# Altium footprint library MPU-6050_Main_PCB_Lib.PcbLib: 5 footprints
Each footprint in its own frame and in the unit in brackets; x right, y up, seen from the top. Pads: shape width x height; smd on the part's side, far side on the other; paste and mask are expansions set on the pad; w line width, h text height; cw(c..) or ccw(c..) is an arc to the next point about the centre after c.
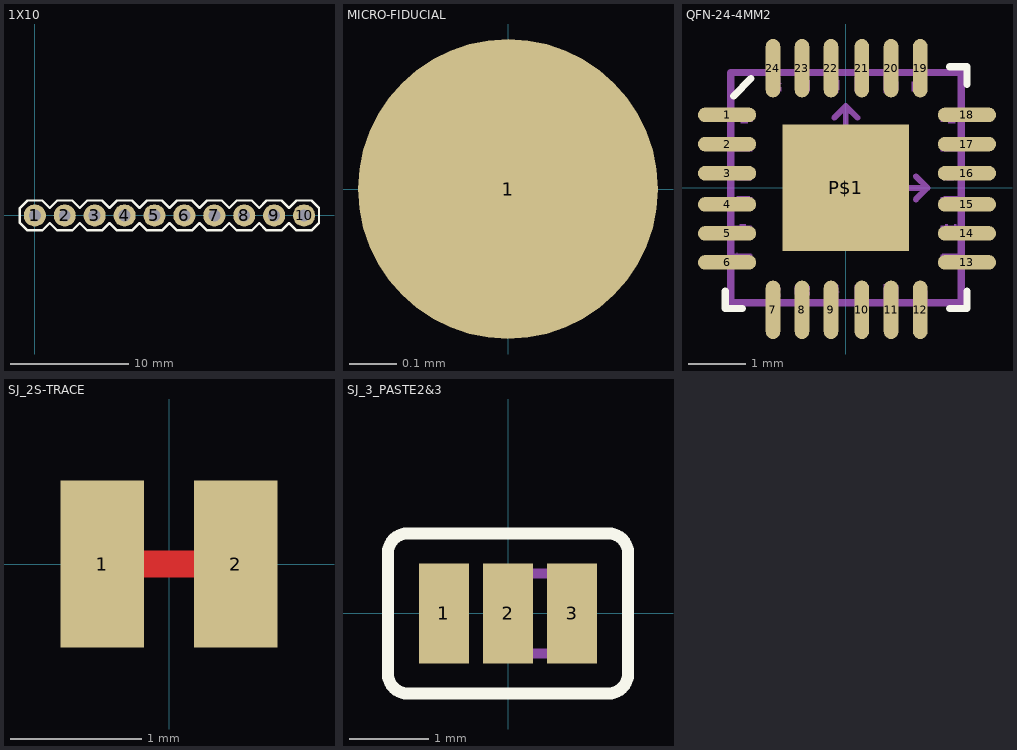
[diagram p0: the footprints below, top view; thin cyan lines are the x and y axes]

## 1X10 [mil] "1X10"
pads (10):
  round 74 hole 40: 1(0,0) 2(100,0) 3(200,0) 4(300,0) 5(400,0) 6(500,0) 7(600,0) 8(700,0) 9(800,0) 10(900,0)
Top Overlay:
  lines w8: -50,-25 -25,-50 25,-50 50,-25 75,-50 125,-50 150,-25 175,-50 225,-50 250,-25 275,-50 325,-50 350,-25 375,-50 425,-50 450,-25 475,-50 525,-50 550,-25 575,-50 625,-50 650,-25 675,-50 725,-50 750,-25 775,-50 825,-50 850,-25 875,-50 925,-50 950,-25 950,25 925,50 875,50 850,25 825,50 775,50 750,25 725,50 675,50 650,25 625,50 575,50 550,25 525,50 475,50 450,25 425,50 375,50 350,25 325,50 275,50 250,25 225,50 175,50 150,25 125,50 75,50 50,25 25,50 -25,50 -50,25 -50,-25
Mechanical 16:
  rectangle: 890,-10 910,10
  rectangle: 790,-10 810,10
  rectangle: 690,-10 710,10
  rectangle: -10,-10 10,10
  rectangle: 90,-10 110,10
  rectangle: 190,-10 210,10
  rectangle: 290,-10 310,10
  rectangle: 390,-10 410,10
  rectangle: 490,-10 510,10
  rectangle: 590,-10 610,10

## MICRO-FIDUCIAL [mil] "MICRO-FIDUCIAL"
pads (1):
  rrect100% 25x25 smd: 1(0,0)

## QFN-24-4MM2 [mil] "QFN-24-4MM2"
pads (25):
  rrect100% 40x10 smd: 1(-81.35,50) 2(-81.35,30) 3(-81.35,10) 4(-81.35,-11.32) 5(-81.35,-31.18) 6(-81.35,-51.05) 13(83,-51.05) 14(83,-31.18) 15(83,-11.32) 16(83,10) 17(83,30) 18(83,50)
  rrect100% 10x40 smd: 7(-49.87,-83.53) 8(-30,-83.53) 9(-10.14,-83.53) 10(11,-83.53) 11(31,-83.53) 12(51,-83.53) 19(51,82) 20(31,82) 21(11,82) 22(-10.14,82) 23(-30,82) 24(-49.87,82)
  rect 86.61x86.61 smd: P$1(0,0)
Top Overlay:
  lines w5: -82.68,-70.87 -82.68,-82.68 -70.87,-82.68 ; -76.81,63 -65,75 ; 71,-82.68 83,-82.68 83,-70.87 ; 71,83 83,83 83,71
Mechanical 16:
  drawing of 402 lines, arcs and shapes, not listed
  text "Z" at -3.94,-23.62 h15.5
  text "X" at 44,16 h15.5
  text "Y" at -23.62,40 h15.5
Mechanical 57:
  text "C:/Documents and Settings/jbartlett/Desktop/mpu-6050.bmp" at -78.09,-82.87 h1.7
3D body: height 34.65, standoff -0.79, extent -79.72,-81.3 79.33,77.76

## SJ_2S-TRACE [mil] "SJ_2S-TRACE"
pads (2):
  rect 25x50 smd: 1(-20,0) 2(20,0)
Top Layer:
  lines w8: -15,0 15,0
Bottom Overlay:
  lines w8: -42.5,-30 ccw(c-32.5,-30) -32.5,-40 33,-40 ccw(c33,-30) 43,-30 ; -42.5,30 cw(c-32.5,30) -32.5,40 33,40 cw(c33,30) 43,30
  text ">NAME" at -37.5,50 h24.8
  text ">VALUE" at -37.5,-65 h24.8

## SJ_3_PASTE2&3 [mil] "SJ_3_PASTE2&3"
pads (3):
  rect 25x50 smd: 1(-32,0) 2(0,0) 3(32,0)
Top Overlay:
  lines w6: -60,-30 ccw(c-50,-30) -50,-40 50,-40 ccw(c50,-30) 60,-30 60,30 ccw(c50,30) 50,40 -50,40 ccw(c-50,30) -60,30 -60,-30
  text ">VALUE" at -3.94,0 h1.55
Top Paste:
  rectangle: -11,-40 56,39
Mechanical 16:
  lines w5: -7.5,-20 40,-20 40,20 -7.5,20 -7.5,-20
  text "PASTE" at 3,-17.5 h15.5